# Altium schematic symbol library MCU_Nordic.SchLib: 11 symbols
Pins are listed as number, name and electrical type; pins without a type are passive.

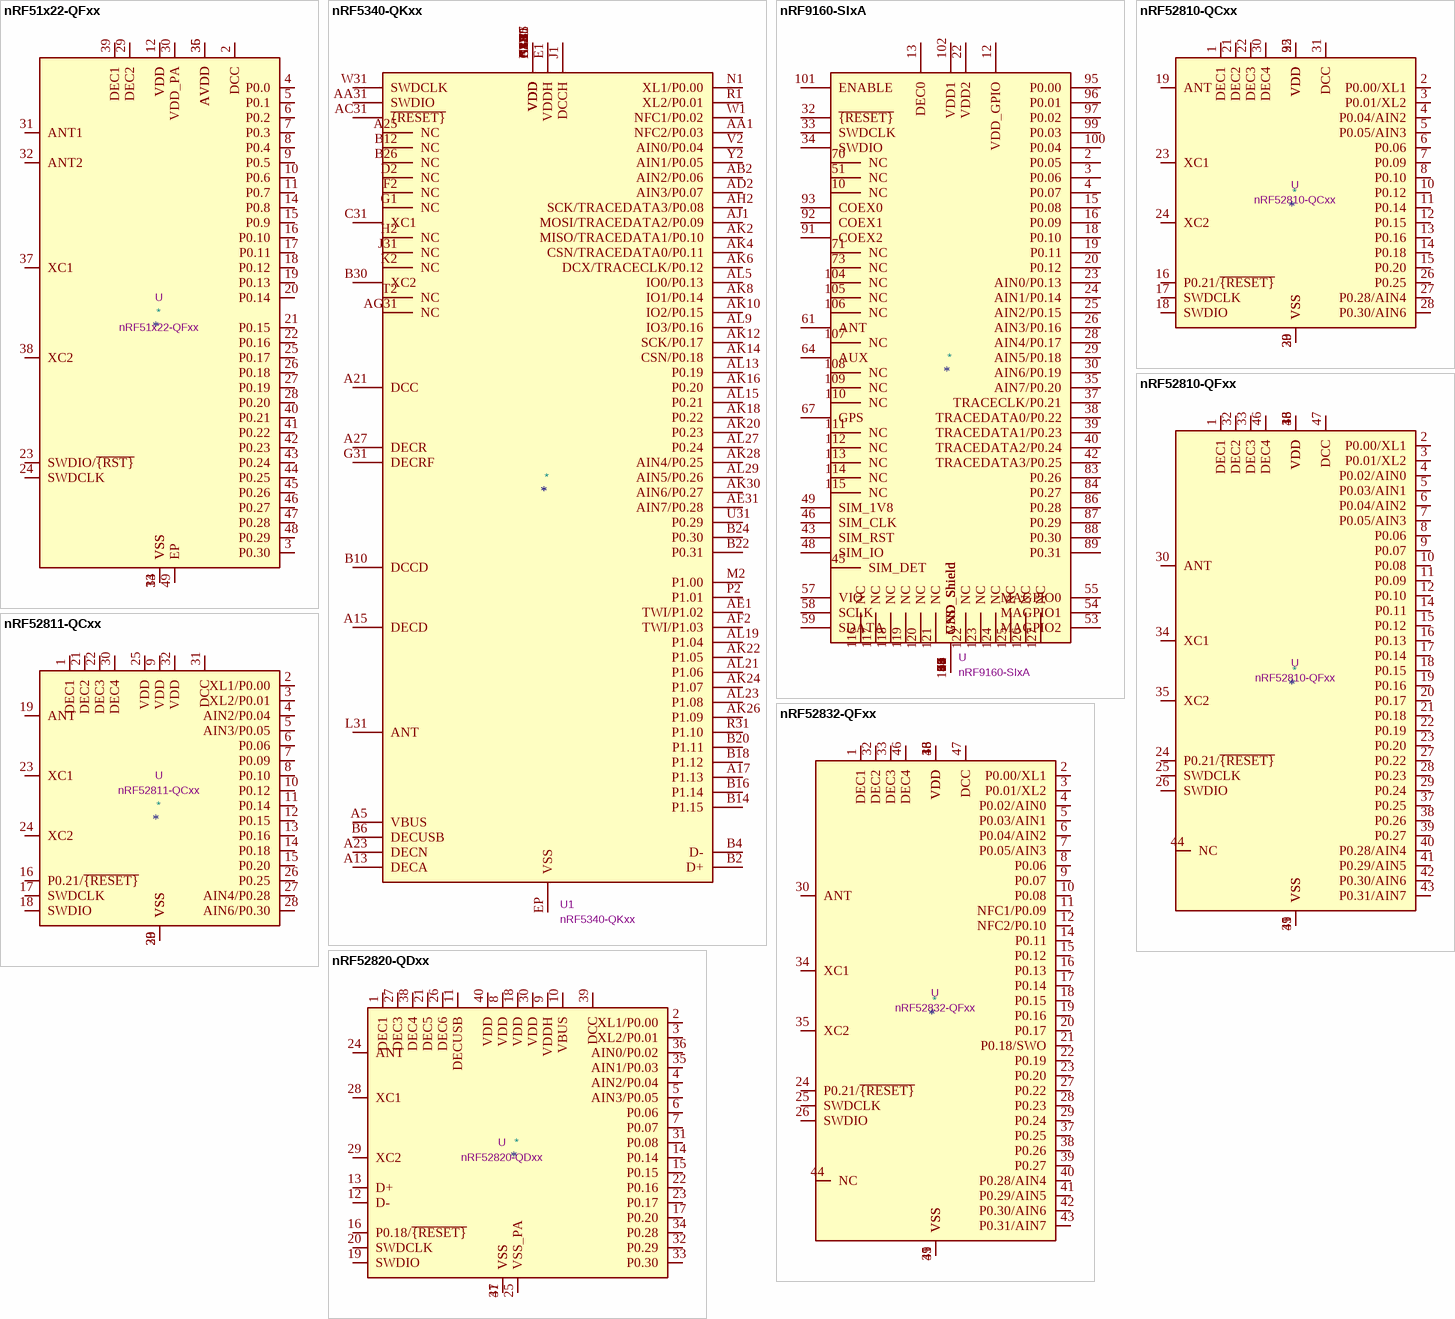
[diagram p0: symbols nRF51x22-QFxx to nRF52832-QFxx]

## nRF51x22-QFxx
designator *  value nRF51x22-QFxx  Reference: U
Multiprotocol BLE/2.4GHz Cortex-M0+ SoC; ki_keywords: MCU ARM BLE 2.4GHz; ki_fp_filters: QFN*1EP*6x6mm*P0.4mm*; Footprint: Package_DFN_QFN:QFN-48-1EP_6x6mm_P0.4mm_EP4.6x4.6mm; Datasheet: http://infocenter.nordicsemi.com/pdf/nRF51822_PS_v3.3.pdf; Description_: Multiprotocol BLE/2.4GHz Cortex-M0+ SoC
pins: 1 VDD, 2 DCC, 3 P0.30, 4 P0.0, 5 P0.1, 6 P0.2, 7 P0.3, 8 P0.4, 9 P0.5, 10 P0.6, 11 P0.7, 12 VDD, 13 VSS, 14 P0.8, 15 P0.9, 16 P0.10, 17 P0.11, 18 P0.12, 19 P0.13, 20 P0.14, 21 P0.15, 22 P0.16, 23 SWDIO/~{{RST}}, 24 SWDCLK, 25 P0.17, 26 P0.18, 27 P0.19, 28 P0.20, 29 DEC2, 30 VDD_PA, 31 ANT1, 32 ANT2, 33 VSS, 34 VSS, 35 AVDD, 36 AVDD, 37 XC1, 38 XC2, 39 DEC1, 40 P0.21, 41 P0.22, 42 P0.23, 43 P0.24, 44 P0.25, 45 P0.26, 46 P0.27, 47 P0.28, 48 P0.29, 49 EP

## nRF5340-QKxx
designator *  value nRF5340-QKxx  Reference: U1
nRF5340, BLE, NFC, Thread, Zigbee, ARM M33 SoC, Dual Core, AQFN-94; ki_keywords: nordic nrf nRF5340 aQFN94 BLE Zigbee NFC Thread M33; ki_fp_filters: Nordic*AQFN*1EP*7x7mm*P0.4mm*; Footprint: Package_DFN_QFN:Nordic_AQFN-94-1EP_7x7mm_P0.4mm; Datasheet: https://infocenter.nordicsemi.com/pdf/nRF5340_PS_v1.2.pdf; Description_: nRF5340, BLE, NFC, Thread, Zigbee, ARM M33 SoC, Dual Core, AQFN-94
pins: A5 VBUS, A13 DECA, A15 DECD, A17 P1.13, A19 VDD, A21 DCC, A23 DECN, A25 NC, A27 DECR, AA1 NFC2/P0.03, AA31 SWDIO, AB2 AIN2/P0.06, AC1 VDD, AC31 ~{{RESET}}, AD2 AIN3/P0.07, AE1 TWI/P1.02, AE31 AIN7/P0.28, AF2 TWI/P1.03, AG1 VDD, AG31 NC, AH2 SCK/TRACEDATA3/P0.08, AJ1 MOSI/TRACEDATA2/P0.09, AJ31 VDD, AK2 MISO/TRACEDATA1/P0.10, AK4 CSN/TRACEDATA0/P0.11, AK6 DCX/TRACECLK/P0.12, AK8 IO1/P0.14, AK10 IO2/P0.15, AK12 SCK/P0.17, AK14 CSN/P0.18, AK16 P0.20, AK18 P0.22, AK20 P0.23, AK22 P1.05, AK24 P1.07, AK26 P1.09, AK28 AIN4/P0.25, AK30 AIN6/P0.27, AL3 VDD, AL5 IO0/P0.13, AL7 VDD, AL9 IO3/P0.16, AL11 VDD, AL13 P0.19, AL15 P0.21, AL17 VDD, AL19 P1.04, AL21 P1.06, AL23 P1.08, AL25 VDD, AL27 P0.24, AL29 AIN5/P0.26, B2 D+, B4 D-, B6 DECUSB, B8 VDD, B10 DCCD, B12 NC, B14 P1.15, B16 P1.14, B18 P1.12, B20 P1.11, B22 P0.31, B24 P0.30, B26 NC, B28 VDD, B30 XC2, C1 VDD, C31 XC1, D2 NC, E1 VDDH, E31 VDD, EP VSS, F2 NC, G1 NC, G31 DECRF, H2 NC, J1 DCCH, J31 NC, K2 NC, L1 VDD, L31 ANT, M2 P1.00, N1 XL1/P0.00, N31 VDD, P2 P1.01, R1 XL2/P0.01, R31 P1.10, T2 NC, U1 VDD, U31 P0.29, V2 AIN0/P0.04, W1 NFC1/P0.02, W31 SWDCLK, Y2 AIN1/P0.05

## nRF9160-SIxA
designator *  value nRF9160-SIxA  Reference: U
Low power SiP with integrated LTE-M/NB-IoT modem and GNSS; ki_keywords: MCU ARM M33 cellular GPS; ki_fp_filters: Nordic*nRF9160*LGA?102?59EP*16.0x10.5mm*P0.5mm*; Footprint: Package_LGA:Nordic_nRF9160-SIxx_LGA-102-59EP_16.0x10.5mm_P0.5mm; Datasheet: https://docs-be.nordicsemi.com/bundle/ps_nrf9160/attach/nRF9160_PS_v2.2.pdf; Description_: Low power SiP with integrated LTE-M/NB-IoT modem and GNSS
pins: 1 GND_Shield, 2 P0.05, 3 P0.06, 4 P0.07, 5 GND_Shield, 6 GND_Shield, 7 GND_Shield, 8 GND_Shield, 9 GND_Shield, 10 NC, 11 GND_Shield, 12 VDD_GPIO, 13 DEC0, 14 GND_Shield, 15 P0.08, 16 P0.09, 17 GND_Shield, 18 P0.10, 19 P0.11, 20 P0.12, 21 GND_Shield, 22 VDD2, 23 AIN0/P0.13, 24 AIN1/P0.14, 25 AIN2/P0.15, 26 AIN3/P0.16, 27 GND_Shield, 28 AIN4/P0.17, 29 AIN5/P0.18, 30 AIN6/P0.19, 31 GND_Shield, 32 ~{{RESET}}, 33 SWDCLK, 34 SWDIO, 35 AIN7/P0.20, 36 GND_Shield, 37 TRACECLK/P0.21, 38 TRACEDATA0/P0.22, 39 TRACEDATA1/P0.23, 40 TRACEDATA2/P0.24, 41 GND_Shield, 42 TRACEDATA3/P0.25, 43 SIM_RST, 44 GND_Shield, 45 SIM_DET, 46 SIM_CLK, 47 GND_Shield, 48 SIM_IO, 49 SIM_1V8, 50 GND_Shield, 51 NC, 52 GND_Shield, 53 MAGPIO2, 54 MAGPIO1, 55 MAGPIO0, 56 GND_Shield, 57 VIO, 58 SCLK, 59 SDATA, 60 GND_Shield, 61 ANT, 62 GND_Shield, 63 GND_Shield, 64 AUX, 65 GND_Shield, 66 GND_Shield, 67 GPS, 68 GND_Shield, 69 GND_Shield, 70 NC, 71 NC, 72 GND_Shield, 73 NC, 74 GND_Shield, 75 GND_Shield, 76 GND_Shield, 77 GND_Shield, 78 GND_Shield, 79 GND_Shield, 80 GND_Shield, 81 GND_Shield, 82 GND_Shield, 83 P0.26, 84 P0.27, 85 GND_Shield, 86 P0.28, 87 P0.29, 88 P0.30, 89 P0.31, 90 GND_Shield, 91 COEX2, 92 COEX1, 93 COEX0, 94 GND_Shield, 95 P0.00, 96 P0.01, 97 P0.02, 98 GND_Shield, 99 P0.03, 100 P0.04, 101 ENABLE, 102 VDD1, 103 VSS, 104 NC, 105 NC, 106 NC, 107 NC, 108 NC, 109 NC, 110 NC, 111 NC, 112 NC, 113 NC, 114 NC, 115 NC, 116 NC, 117 NC, 118 NC, 119 NC, 120 NC, 121 NC, 122 NC, 123 NC, 124 NC, 125 NC, 126 NC, 127 NC

## nRF52810-QCxx
designator *  value nRF52810-QCxx  Reference: U
Multiprotocol BLE/2.4GHz Cortex-M4 SoC, QFN-32; ki_keywords: MCU ARM BLE 2.4GHz; ki_fp_filters: QFN*1EP*5x5mm*P0.5mm*; Footprint: Package_DFN_QFN:QFN-32-1EP_5x5mm_P0.5mm_EP3.6x3.6mm; Datasheet: http://infocenter.nordicsemi.com/pdf/nRF52810_PS_v1.1.pdf; Description_: Multiprotocol BLE/2.4GHz Cortex-M4 SoC, QFN-32
pins: 1 DEC1, 2 P0.00/XL1, 3 P0.01/XL2, 4 P0.04/AIN2, 5 P0.05/AIN3, 6 P0.06, 7 P0.09, 8 P0.10, 9 VDD, 10 P0.12, 11 P0.14, 12 P0.15, 13 P0.16, 14 P0.18, 15 P0.20, 16 P0.21/~{{RESET}}, 17 SWDCLK, 18 SWDIO, 19 ANT, 20 VSS, 21 DEC2, 22 DEC3, 23 XC1, 24 XC2, 25 VDD, 26 P0.25, 27 P0.28/AIN4, 28 P0.30/AIN6, 29 VSS, 30 DEC4, 31 DCC, 32 VDD, 33 VSS

## nRF52810-QFxx
designator *  value nRF52810-QFxx  Reference: U
Multiprotocol BLE/2.4GHz Cortex-M4 SoC, QFN-48; ki_keywords: MCU ARM BLE 2.4GHz; ki_fp_filters: QFN*1EP*6x6mm*P0.4mm*; Footprint: Package_DFN_QFN:QFN-48-1EP_6x6mm_P0.4mm_EP4.6x4.6mm; Datasheet: http://infocenter.nordicsemi.com/pdf/nRF52810_PS_v1.1.pdf; Description_: Multiprotocol BLE/2.4GHz Cortex-M4 SoC, QFN-48
pins: 1 DEC1, 2 P0.00/XL1, 3 P0.01/XL2, 4 P0.02/AIN0, 5 P0.03/AIN1, 6 P0.04/AIN2, 7 P0.05/AIN3, 8 P0.06, 9 P0.07, 10 P0.08, 11 P0.09, 12 P0.10, 13 VDD, 14 P0.11, 15 P0.12, 16 P0.13, 17 P0.14, 18 P0.15, 19 P0.16, 20 P0.17, 21 P0.18, 22 P0.19, 23 P0.20, 24 P0.21/~{{RESET}}, 25 SWDCLK, 26 SWDIO, 27 P0.22, 28 P0.23, 29 P0.24, 30 ANT, 31 VSS, 32 DEC2, 33 DEC3, 34 XC1, 35 XC2, 36 VDD, 37 P0.25, 38 P0.26, 39 P0.27, 40 P0.28/AIN4, 41 P0.29/AIN5, 42 P0.30/AIN6, 43 P0.31/AIN7, 44 NC, 45 VSS, 46 DEC4, 47 DCC, 48 VDD, 49 VSS

## nRF52811-QCxx
designator *  value nRF52811-QCxx  Reference: U
Multiprotocol BLE/ANT/2.4 GHz/802.15.4 Cortex-M4F SoC, QFN-32; ki_keywords: MCU ARM BLE ANT 2.4GHz 802.15.4; ki_fp_filters: QFN*1EP*5x5mm*P0.5mm*; Footprint: Package_DFN_QFN:QFN-32-1EP_5x5mm_P0.5mm_EP3.6x3.6mm_ThermalVias; Datasheet: https://infocenter.nordicsemi.com/pdf/nRF52811_PS_v1.0.pdf; Description_: Multiprotocol BLE/ANT/2.4 GHz/802.15.4 Cortex-M4F SoC, QFN-32
pins: 1 DEC1, 2 XL1/P0.00, 3 XL2/P0.01, 4 AIN2/P0.04, 5 AIN3/P0.05, 6 P0.06, 7 P0.09, 8 P0.10, 9 VDD, 10 P0.12, 11 P0.14, 12 P0.15, 13 P0.16, 14 P0.18, 15 P0.20, 16 P0.21/~{{RESET}}, 17 SWDCLK, 18 SWDIO, 19 ANT, 20 VSS, 21 DEC2, 22 DEC3, 23 XC1, 24 XC2, 25 VDD, 26 P0.25, 27 AIN4/P0.28, 28 AIN6/P0.30, 29 VSS, 30 DEC4, 31 DCC, 32 VDD, 33 VSS

## nRF52820-QDxx
designator *  value nRF52820-QDxx  Reference: U
Multiprotocol BLE/ANT/2.4 GHz/802.15.4 Cortex-M4 SoC, QFN-40; ki_keywords: MCU ARM BLE ANT 2.4GHz 802.15.4; ki_fp_filters: QFN*1EP*5x5mm*P0.4mm*; Footprint: Package_DFN_QFN:QFN-40-1EP_5x5mm_P0.4mm_EP3.6x3.6mm; Datasheet: https://infocenter.nordicsemi.com/pdf/nRF52820_PS_v1.0.pdf; Description_: Multiprotocol BLE/ANT/2.4 GHz/802.15.4 Cortex-M4 SoC, QFN-40
pins: 1 DEC1, 2 XL1/P0.00, 3 XL2/P0.01, 4 AIN2/P0.04, 5 AIN3/P0.05, 6 P0.06, 7 P0.07, 8 VDD, 9 VDDH, 10 VBUS, 11 DECUSB, 12 D-, 13 D+, 14 P0.14, 15 P0.15, 16 P0.18/~{{RESET}}, 17 P0.20, 18 VDD, 19 SWDIO, 20 SWDCLK, 21 DEC5, 22 P0.16, 23 P0.17, 24 ANT, 25 VSS_PA, 26 DEC6, 27 DEC3, 28 XC1, 29 XC2, 30 VDD, 31 P0.08, 32 P0.29, 33 P0.30, 34 P0.28, 35 AIN1/P0.03, 36 AIN0/P0.02, 37 VSS, 38 DEC4, 39 DCC, 40 VDD, 41 VSS

## nRF52832-QFxx
designator *  value nRF52832-QFxx  Reference: U
Multiprotocol BLE/2.4GHz Cortex-M4 SoC, QFN-48; ki_keywords: MCU ARM BLE 2.4GHz; ki_fp_filters: QFN*1EP*6x6mm*P0.4mm*; Footprint: Package_DFN_QFN:QFN-48-1EP_6x6mm_P0.4mm_EP4.6x4.6mm; Datasheet: http://infocenter.nordicsemi.com/pdf/nRF52832_PS_v1.4.pdf; Description_: Multiprotocol BLE/2.4GHz Cortex-M4 SoC, QFN-48
pins: 1 DEC1, 2 P0.00/XL1, 3 P0.01/XL2, 4 P0.02/AIN0, 5 P0.03/AIN1, 6 P0.04/AIN2, 7 P0.05/AIN3, 8 P0.06, 9 P0.07, 10 P0.08, 11 NFC1/P0.09, 12 NFC2/P0.10, 13 VDD, 14 P0.11, 15 P0.12, 16 P0.13, 17 P0.14, 18 P0.15, 19 P0.16, 20 P0.17, 21 P0.18/SWO, 22 P0.19, 23 P0.20, 24 P0.21/~{{RESET}}, 25 SWDCLK, 26 SWDIO, 27 P0.22, 28 P0.23, 29 P0.24, 30 ANT, 31 VSS, 32 DEC2, 33 DEC3, 34 XC1, 35 XC2, 36 VDD, 37 P0.25, 38 P0.26, 39 P0.27, 40 P0.28/AIN4, 41 P0.29/AIN5, 42 P0.30/AIN6, 43 P0.31/AIN7, 44 NC, 45 VSS, 46 DEC4, 47 DCC, 48 VDD, 49 VSS

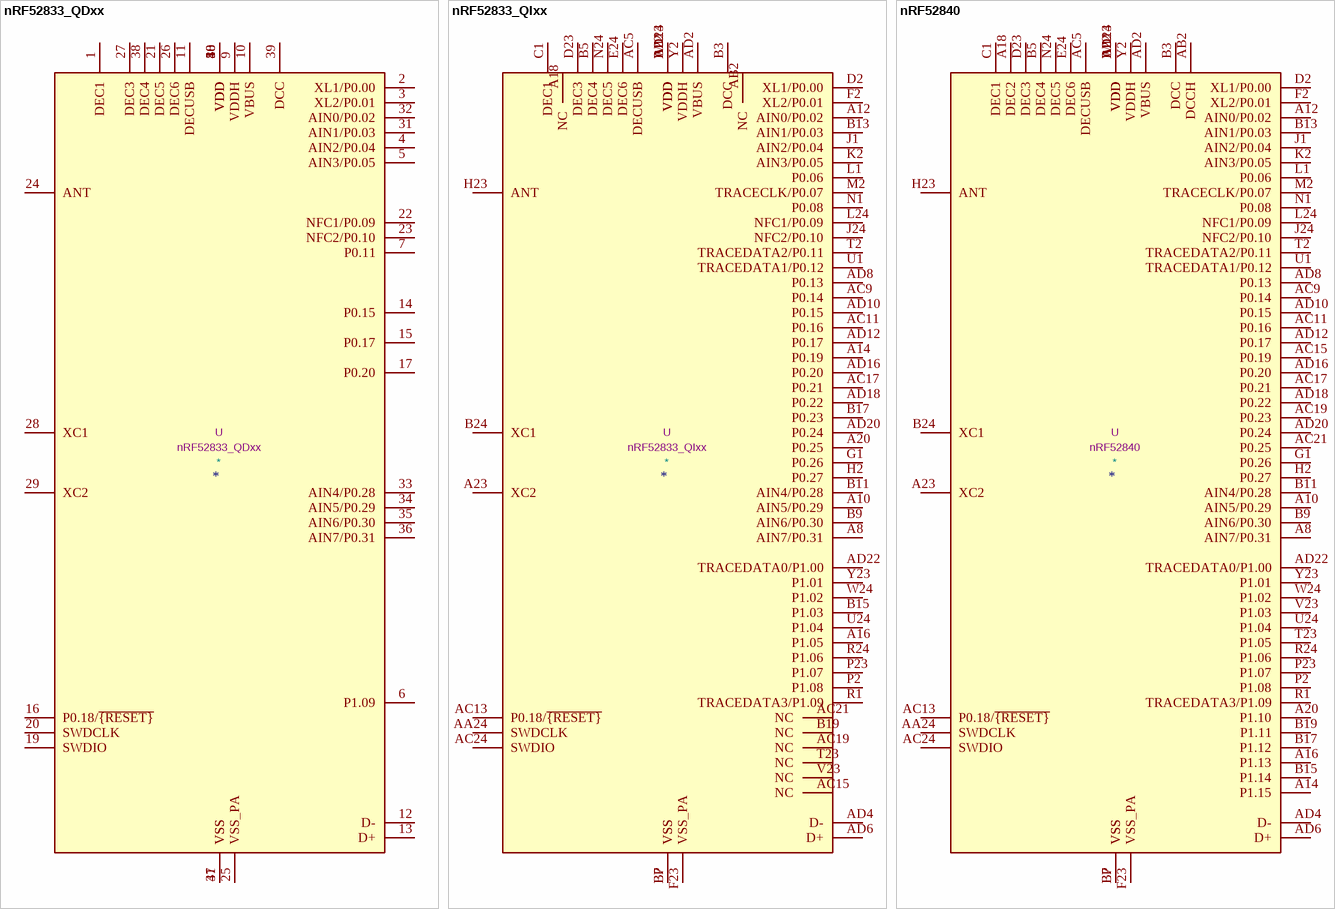
[diagram p1: symbols nRF52833_QDxx to nRF52840]

## nRF52833_QDxx
designator *  value nRF52833_QDxx  Reference: U
Multiprotocol BLE/ANT/2.4 GHz/802.15.4 Cortex-M4F SoC, QFN-40; ki_keywords: MCU ARM BLE ANT 2.4GHz 802.15.4; ki_fp_filters: QFN*1EP*5x5mm*P0.4mm*; Footprint: Package_DFN_QFN:QFN-40-1EP_5x5mm_P0.4mm_EP3.6x3.6mm; Datasheet: https://infocenter.nordicsemi.com/pdf/nRF52833_PS_v1.5.pdf; Description_: Multiprotocol BLE/ANT/2.4 GHz/802.15.4 Cortex-M4F SoC, QFN-40
pins: 1 DEC1, 2 XL1/P0.00, 3 XL2/P0.01, 4 AIN2/P0.04, 5 AIN3/P0.05, 6 P1.09, 7 P0.11, 8 VDD, 9 VDDH, 10 VBUS, 11 DECUSB, 12 D-, 13 D+, 14 P0.15, 15 P0.17, 16 P0.18/~{{RESET}}, 17 P0.20, 18 VDD, 19 SWDIO, 20 SWDCLK, 21 DEC5, 22 NFC1/P0.09, 23 NFC2/P0.10, 24 ANT, 25 VSS_PA, 26 DEC6, 27 DEC3, 28 XC1, 29 XC2, 30 VDD, 31 AIN1/P0.03, 32 AIN0/P0.02, 33 AIN4/P0.28, 34 AIN5/P0.29, 35 AIN6/P0.30, 36 AIN7/P0.31, 37 VSS, 38 DEC4, 39 DCC, 40 VDD, 41 VSS

## nRF52833_QIxx
designator *  value nRF52833_QIxx  Reference: U
Multiprotocol BLE/ANT/2.4 GHz/802.15.4 Cortex-M4F SoC, AQFN-73; ki_keywords: MCU ARM BLE ANT 2.4GHz 802.15.4; ki_fp_filters: Nordic*AQFN*1EP*7x7mm*P0.5mm*; Footprint: Package_DFN_QFN:Nordic_AQFN-73-1EP_7x7mm_P0.5mm; Datasheet: https://infocenter.nordicsemi.com/pdf/nRF52833_PS_v1.5.pdf; Description_: Multiprotocol BLE/ANT/2.4 GHz/802.15.4 Cortex-M4F SoC, AQFN-73
pins: A8 AIN7/P0.31, A10 AIN5/P0.29, A12 AIN0/P0.02, A14 P0.19, A16 P1.05, A18 NC, A20 P0.25, A22 VDD, A23 XC2, AA24 SWDCLK, AB2 NC, AC5 DECUSB, AC9 P0.14, AC11 P0.16, AC13 P0.18/~{{RESET}}, AC15 NC, AC17 P0.21, AC19 NC, AC21 NC, AC24 SWDIO, AD2 VBUS, AD4 D-, AD6 D+, AD8 P0.13, AD10 P0.15, AD12 P0.17, AD14 VDD, AD16 P0.20, AD18 P0.22, AD20 P0.24, AD22 TRACEDATA0/P1.00, AD23 VDD, B1 VDD, B3 DCC, B5 DEC4, B7 VSS, B9 AIN6/P0.30, B11 AIN4/P0.28, B13 AIN1/P0.03, B15 P1.03, B17 P0.23, B19 NC, B24 XC1, C1 DEC1, D2 XL1/P0.00, D23 DEC3, E24 DEC6, EP VSS, F2 XL2/P0.01, F23 VSS_PA, G1 P0.26, H2 P0.27, H23 ANT, J1 AIN2/P0.04, J24 NFC2/P0.10, K2 AIN3/P0.05, L1 P0.06, L24 NFC1/P0.09, M2 TRACECLK/P0.07, N1 P0.08, N24 DEC5, P2 P1.08, P23 P1.07, R1 TRACEDATA3/P1.09, R24 P1.06, T2 TRACEDATA2/P0.11, T23 NC, U1 TRACEDATA1/P0.12, U24 P1.04, V23 NC, W1 VDD, W24 P1.02, Y2 VDDH, Y23 P1.01

## nRF52840
designator *  value nRF52840  Reference: U
Multiprotocol BLE/ANT/2.4 GHz/802.15.4 Cortex-M4F SoC, AQFN-73; ki_keywords: MCU ARM BLE ANT 2.4GHz 802.15.4; ki_fp_filters: Nordic*AQFN*1EP*7x7mm*P0.5mm*; Footprint: Package_DFN_QFN:Nordic_AQFN-73-1EP_7x7mm_P0.5mm; Datasheet: http://infocenter.nordicsemi.com/topic/com.nordic.infocenter.nrf52/dita/nrf52/chips/nrf52840.html; Description_: Multiprotocol BLE/ANT/2.4 GHz/802.15.4 Cortex-M4F SoC, AQFN-73
pins: A8 AIN7/P0.31, A10 AIN5/P0.29, A12 AIN0/P0.02, A14 P1.15, A16 P1.13, A18 DEC2, A20 P1.10, A22 VDD, A23 XC2, AA24 SWDCLK, AB2 DCCH, AC5 DECUSB, AC9 P0.14, AC11 P0.16, AC13 P0.18/~{{RESET}}, AC15 P0.19, AC17 P0.21, AC19 P0.23, AC21 P0.25, AC24 SWDIO, AD2 VBUS, AD4 D-, AD6 D+, AD8 P0.13, AD10 P0.15, AD12 P0.17, AD14 VDD, AD16 P0.20, AD18 P0.22, AD20 P0.24, AD22 TRACEDATA0/P1.00, AD23 VDD, B1 VDD, B3 DCC, B5 DEC4, B7 VSS, B9 AIN6/P0.30, B11 AIN4/P0.28, B13 AIN1/P0.03, B15 P1.14, B17 P1.12, B19 P1.11, B24 XC1, C1 DEC1, D2 XL1/P0.00, D23 DEC3, E24 DEC6, EP VSS, F2 XL2/P0.01, F23 VSS_PA, G1 P0.26, H2 P0.27, H23 ANT, J1 AIN2/P0.04, J24 NFC2/P0.10, K2 AIN3/P0.05, L1 P0.06, L24 NFC1/P0.09, M2 TRACECLK/P0.07, N1 P0.08, N24 DEC5, P2 P1.08, P23 P1.07, R1 TRACEDATA3/P1.09, R24 P1.06, T2 TRACEDATA2/P0.11, T23 P1.05, U1 TRACEDATA1/P0.12, U24 P1.04, V23 P1.03, W1 VDD, W24 P1.02, Y2 VDDH, Y23 P1.01